# Altium schematic symbol library libreria.SchLib: 1 symbol
Pins are listed as number, name and electrical type; pins without a type are passive.

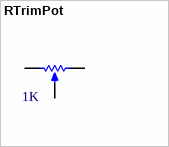
[diagram p0: symbol RTrimPot]

## RTrimPot
designator R?  value 1K
Rectangular Trimmer Potentiometer; Turns: 15; Wise: CW
footprint 3006P (Rectangular Trimming Potentiometer 3006P)
pins: 1, 2, 3